# Altium schematic symbol library PIC10F320-SOT23_6.SchLib: 1 symbol
Pins are listed as number, name and electrical type; pins without a type are passive.

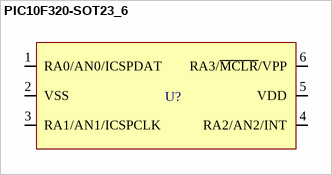
[diagram p0: symbol PIC10F320-SOT23_6]

## PIC10F320-SOT23_6
designator U?  (value not drawn)
pins: 1 RA0/AN0/ICSPDAT, 2 VSS, 3 RA1/AN1/ICSPCLK, 4 RA2/AN2/INT, 5 VDD, 6 RA3/~{MCLR}/VPP